# EAGLE library part WURTH_MICROSD_693072010801 (library CONNECTORs)
Micro SD card holder. 8pin. SMD.
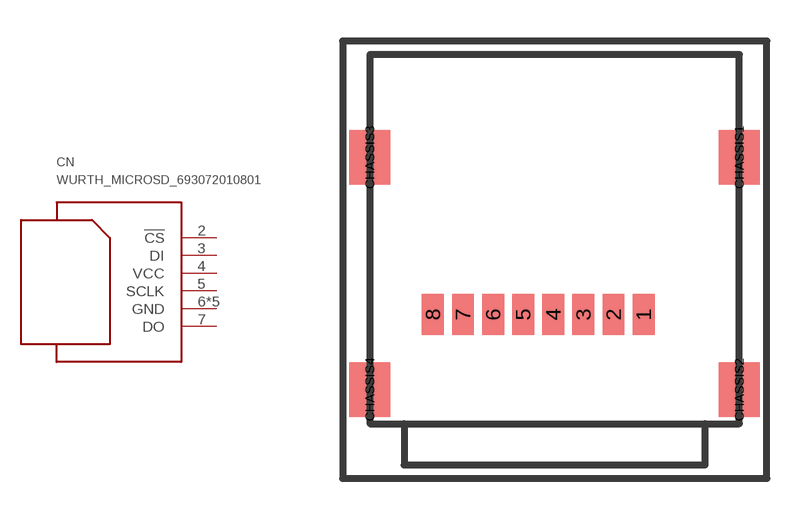
[diagram p9: symbol with the pads of WURTH_USD_693072010801; footprint WURTH_USD_693072010801]

Designator prefix CN

## WURTH_MICROSD_693072010801 (FARNELL: 2081364; VALUE: 693072010801)  [WURTH_USD_693072010801]
2  !CS
3  DI
4  VCC
5  SCLK
6  GND
7  DO
CHASSIS1  GND
CHASSIS2  GND
CHASSIS3  GND
CHASSIS4  GND

## Footprint WURTH_USD_693072010801 (pad centres in mm)
smd 0.8 x 1.5: 1 0,0; 2 -1.1,0; 3 -2.2,0; 4 -3.3,0; 5 -4.4,0; 6 -5.5,0; 7 -6.6,0; 8 -7.7,0
smd 1.5 x 2: CHASSIS1 3.5,5.75; CHASSIS2 3.5,-2.75; CHASSIS3 -10,5.75; CHASSIS4 -10,-2.75